# Altium footprint library ESDR0502NMUTBG.PcbLib: 3 footprints
Each footprint in its own frame and in the unit in brackets; x right, y up, seen from the top. Pads: shape width x height; smd on the part's side, far side on the other; paste and mask are expansions set on the pad; w line width, h text height; cw(c..) or ccw(c..) is an arc to the next point about the centre after c.
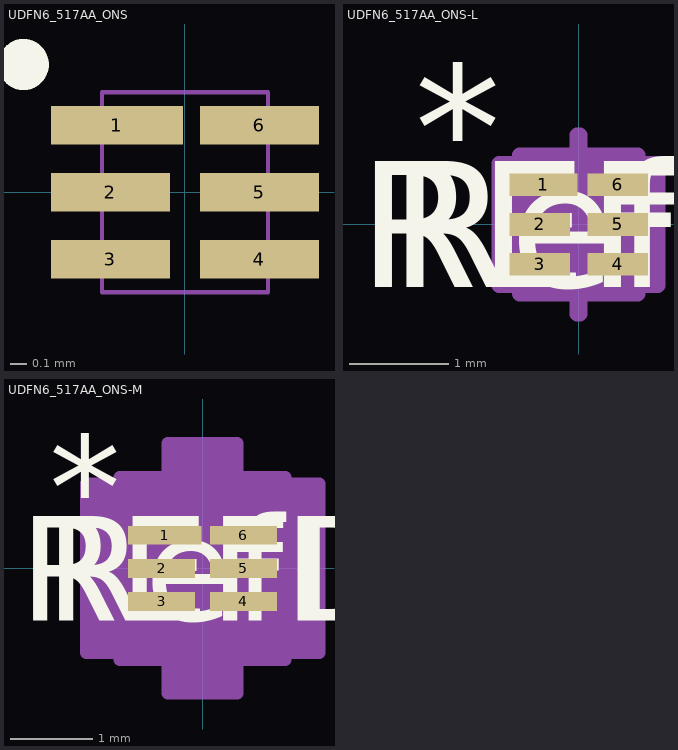
[diagram p0: the footprints below, top view; thin cyan lines are the x and y axes]

## UDFN6_517AA_ONS [mil]
pads (6):
  rect 31x9 smd paste+0 mask+0: 1(-16,15.75)
  rect 28x9 smd paste+0 mask+0: 2(-17.5,0) 3(-17.5,-15.75) 4(17.5,-15.75) 5(17.5,0) 6(17.5,15.75)
Top Overlay:
  circle w10: c-38,30 r1
Mechanical 13:
  lines w1: -19.5,-23.5 -19.5,23.5 19.5,23.5 19.5,-23.5 -19.5,-23.5 ; -19.5,-20.75 -19.5,-10.75 -19.5,-20.75 ; -19.5,-5 -19.5,5 -19.5,-5 ; -19.5,10.75 -19.5,20.75 -19.5,10.75 ; 19.5,-20.75 19.5,-10.75 19.5,-20.75 ; 19.5,-5 19.5,5 19.5,-5 ; 19.5,10.75 19.5,20.75 19.5,10.75
3D body "UDFN6_517AA_ONS.step": height 22.09, standoff 0, extent -21.5,-23.5 21.5,23.5

## UDFN6_517AA_ONS-L [mil]
pads (6):
  rect 27x9 smd paste+0 mask+0: 1(-14,15.75)
  rect 24x9 smd paste+0 mask+0: 2(-15.5,0) 3(-15.5,-15.75) 4(15.5,-15.75) 5(15.5,0) 6(15.5,15.75)
Top Overlay:
  text "*" at -65,13.62 h50
  text "RefDes" at -75,-25 h50
  text "REFDES" at -87.5,-25 h50
Mechanical 13:
  lines w1: -19.5,-26.5 30.5,23.5 ; -19.5,-20.75 -19.5,-10.75 ; -19.5,-20.75 -19.5,-10.75 ; -19.5,-20.75 -19.5,-20.75 ; -19.5,-10.75 -19.5,-10.75 ; -19.5,-5 -19.5,5 ; -19.5,-5 -19.5,5 ; -19.5,-5 -19.5,-5 ; -19.5,5 -19.5,5 ; -19.5,10.75 -19.5,20.75 ; -19.5,10.75 -19.5,20.75 ; -19.5,10.75 -19.5,10.75 ; -19.5,20.75 -19.5,20.75 ; 19.5,-20.75 19.5,-10.75 ; 19.5,-20.75 19.5,-20.75 ; 19.5,-20.75 19.5,-10.75 ; 19.5,-10.75 19.5,-10.75 ; 19.5,-5 19.5,5 ; 19.5,-5 19.5,-5 ; 19.5,-5 19.5,5 ; 19.5,5 19.5,5 ; 19.5,10.75 19.5,20.75 ; 19.5,10.75 19.5,10.75 ; 19.5,10.75 19.5,20.75 ; 19.5,20.75 19.5,20.75 ; -19.5,-23.5 19.5,-23.5 19.5,23.5 -19.5,23.5 -19.5,-23.5
  text "*" at -12,-46.5 h50
  text "RefDes2" at -87.5,-25 h50
Mechanical 15:
  region: -0.63,-27.5 -23.5,-27.5 -23.5,-24.25 -31.5,-24.25 -31.5,24.25 -23.5,24.25 -23.5,27.5 -0.63,27.5 -0.63,35.5 0.63,35.5 0.63,27.5 23.5,27.5 23.5,24.25 31.5,24.25 31.5,-24.25 23.5,-24.25 23.5,-27.5 0.63,-27.5 0.63,-35.5 -0.63,-35.5
  lines w6: -31.5,-24.25 -23.5,-24.25 -23.5,-27.5 -0.63,-27.5 -0.63,-35.5 0.63,-35.5 0.63,-27.5 23.5,-27.5 23.5,-24.25 31.5,-24.25 31.5,24.25 23.5,24.25 23.5,27.5 0.63,27.5 0.63,35.5 -0.63,35.5 -0.63,27.5 -23.5,27.5 -23.5,24.25 -31.5,24.25 -31.5,-24.25
3D body "UDFN6_517AA_ONS.step": height 22.09, standoff 0, extent -21.5,-23.5 21.5,23.5

## UDFN6_517AA_ONS-M [mil]
pads (6):
  rect 35x9 smd paste+0 mask+0: 1(-18,15.75)
  rect 32x9 smd paste+0 mask+0: 2(-19.5,0) 3(-19.5,-15.75) 4(19.5,-15.75) 5(19.5,0) 6(19.5,15.75)
Top Overlay:
  text "*" at -73,13.62 h50
  text "RefDes" at -75,-25 h50
  text "REFDES" at -87.5,-25 h50
Mechanical 13:
  lines w1: -19.5,-26.5 30.5,23.5 ; -19.5,-20.75 -19.5,-10.75 ; -19.5,-20.75 -19.5,-10.75 ; -19.5,-20.75 -19.5,-20.75 ; -19.5,-10.75 -19.5,-10.75 ; -19.5,-5 -19.5,5 ; -19.5,-5 -19.5,5 ; -19.5,-5 -19.5,-5 ; -19.5,5 -19.5,5 ; -19.5,10.75 -19.5,20.75 ; -19.5,10.75 -19.5,20.75 ; -19.5,10.75 -19.5,10.75 ; -19.5,20.75 -19.5,20.75 ; 19.5,-20.75 19.5,-10.75 ; 19.5,-20.75 19.5,-20.75 ; 19.5,-20.75 19.5,-10.75 ; 19.5,-10.75 19.5,-10.75 ; 19.5,-5 19.5,5 ; 19.5,-5 19.5,-5 ; 19.5,-5 19.5,5 ; 19.5,5 19.5,5 ; 19.5,10.75 19.5,20.75 ; 19.5,10.75 19.5,10.75 ; 19.5,10.75 19.5,20.75 ; 19.5,20.75 19.5,20.75 ; -19.5,-23.5 19.5,-23.5 19.5,23.5 -19.5,23.5 -19.5,-23.5
  text "*" at -12,-46.5 h50
  text "RefDes2" at -87.5,-25 h50
Mechanical 15:
  region: -16.63,-43.5 -39.5,-43.5 -39.5,-40.25 -55.5,-40.25 -55.5,40.25 -39.5,40.25 -39.5,43.5 -16.63,43.5 -16.63,59.5 16.63,59.5 16.63,43.5 39.5,43.5 39.5,40.25 55.5,40.25 55.5,-40.25 39.5,-40.25 39.5,-43.5 16.63,-43.5 16.63,-59.5 -16.63,-59.5
  lines w6: -55.5,-40.25 -39.5,-40.25 -39.5,-43.5 -16.63,-43.5 -16.63,-59.5 16.63,-59.5 16.63,-43.5 39.5,-43.5 39.5,-40.25 55.5,-40.25 55.5,40.25 39.5,40.25 39.5,43.5 16.63,43.5 16.63,59.5 -16.63,59.5 -16.63,43.5 -39.5,43.5 -39.5,40.25 -55.5,40.25 -55.5,-40.25
3D body "UDFN6_517AA_ONS.step": height 22.09, standoff 0, extent -21.5,-23.5 21.5,23.5